# Altium integrated library Linear Technology Power Management System Supervisor, Monitor and Control.IntLib: 1611 symbols (part 47 of 100)
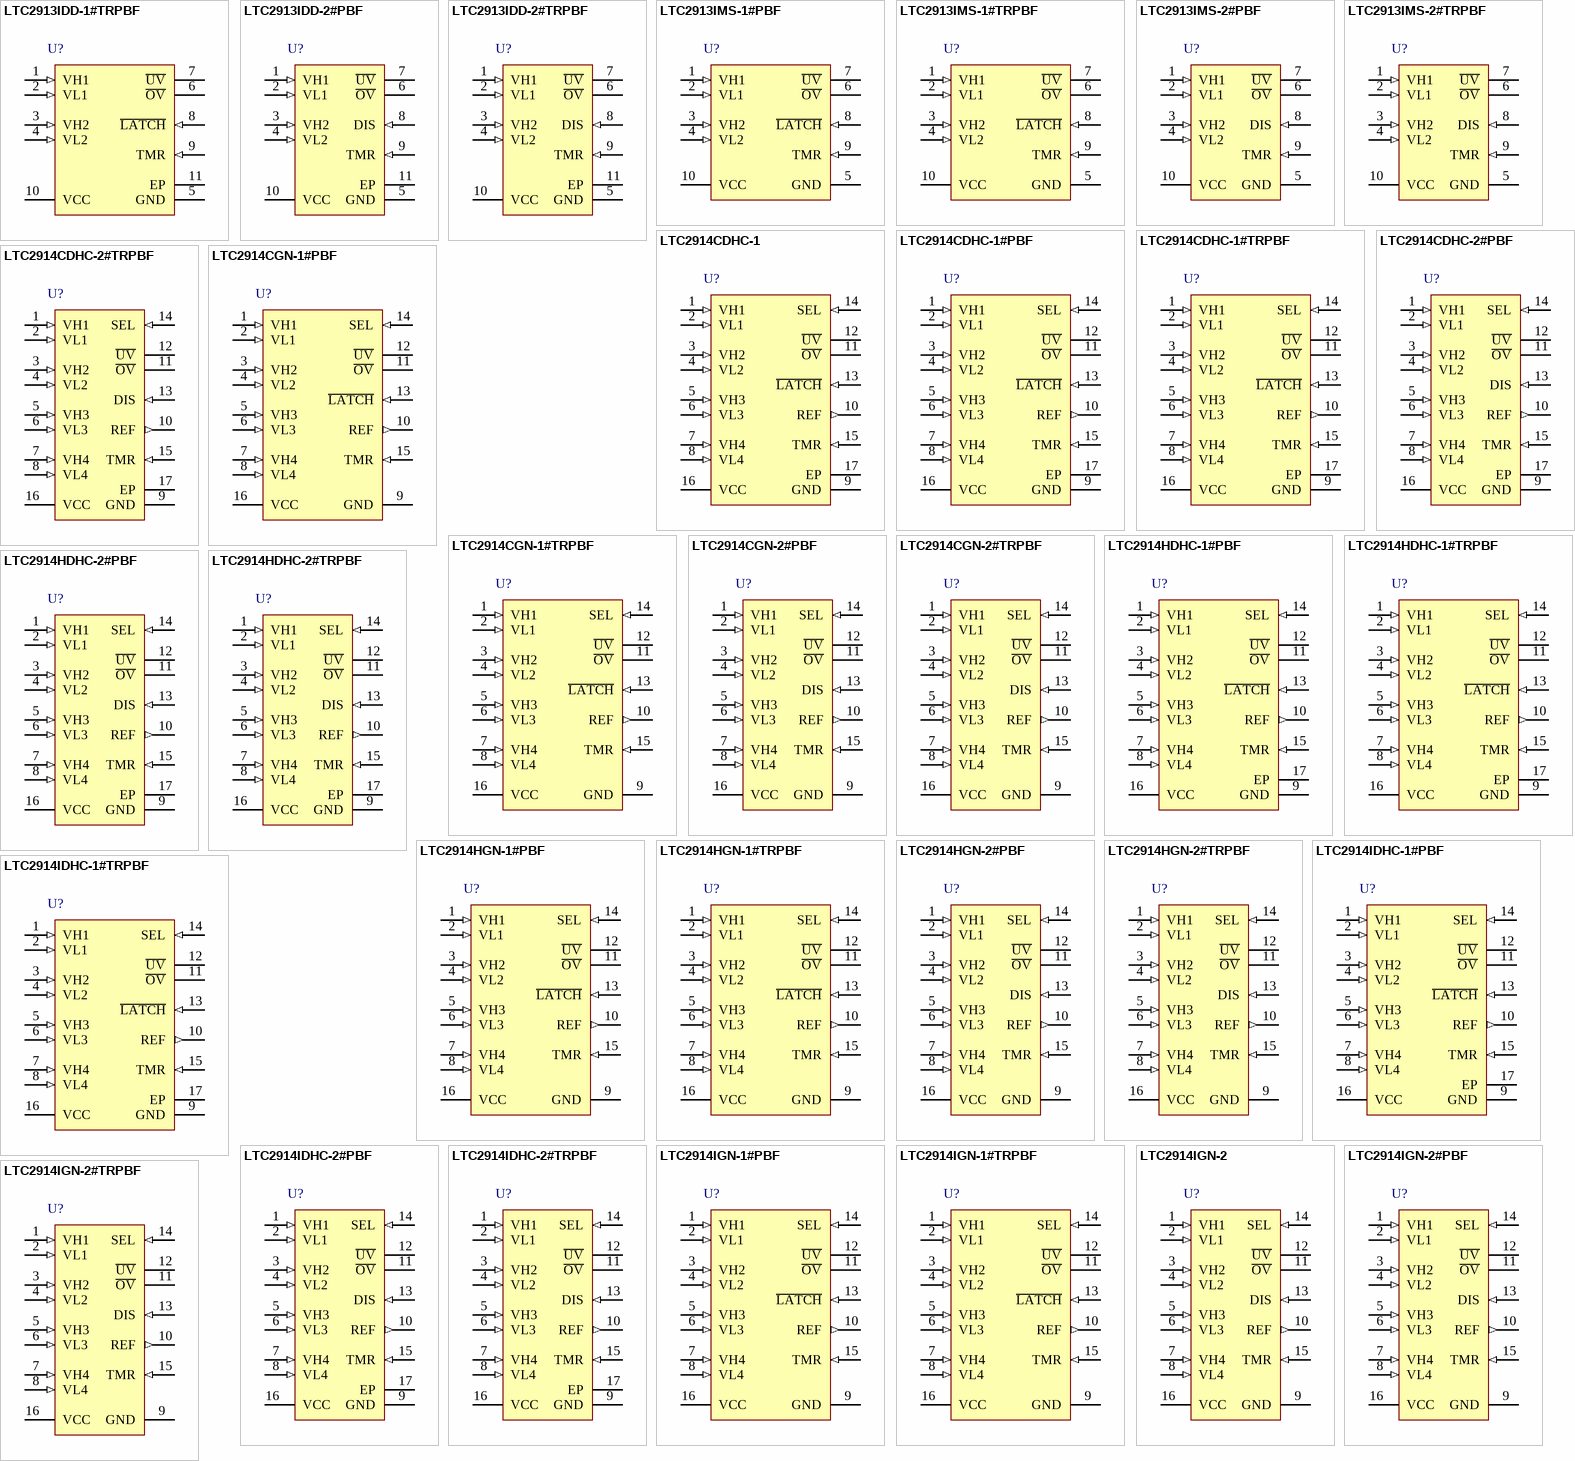
[diagram p91: symbols LTC2913IDD-1#TRPBF to LTC2914IGN-2#TRPBF]

## LTC2914HGN-1#TRPBF
designator U?
Quad UV/OV Positive / Negative Voltage Monitor, 16-pin SOP (GN-16), -40 to 125 degC, Pb-Free, Tape and Reel; Manufacturer: Linear Technology; PartNumber: LTC2914HGN-1#TRPBF; Number of Supplies(#): 4; DatasheetVersion: Rev. B; PackageVersion: Rev. B, 03/2012; PackageReference: GN-16; PackageDescription: 16-Pin Plastic SSOP, Body 4.9 x 3.9 mm, Pitch 0.635 mm; Supplier 1: Digi-Key; Supplier Part Number 1: LTC2914HGN-1#TRPBF-ND; Supplier 2: Newark; Supplier Part Number 2: 75M4502; Packing: Tape and Reel; RoHS: TRUE; Mounting Technology: Surface Mount; ComponentLink1Description: Manufacturer URL; ComponentLink1URL: http://www.linear.com/; ComponentLink2Description: Datasheet; ComponentLink2URL: http://cds.linear.com/docs/en/datasheet/2914fb.pdf; ComponentLink3Description: Package Specification; ComponentLink3URL: http://cds.linear.com/docs/en/packaging/05081641_B_GN16.pdf
footprint LT-GN-16_N (SOP, 16-Leads, Body 5x4mm, Pitch 0.635mm, IPC Medium Density)
footprint LT-GN-16_L (SOP, 16-Leads, Body 5x4mm, Pitch 0.635mm, IPC High Density)
footprint LT-GN-16_M (SOP, 16-Leads, Body 5x4mm, Pitch 0.635mm, IPC Low Density)
pins: 1 VH1 (in) "Voltage High Inputs 1 and 2. When the voltage on this pin is below 0.5V, an undervoltage condition is triggered. Tie pin to VCC if unused.", 2 VL1 (in) "Voltage Low Inputs 1 and 2. When the voltage on this pin is above 0.5V, an overvoltage condition is triggered. Tie pin to GND if unused.", 3 VH2 (in) "Voltage High Inputs 1 and 2. When the voltage on this pin is below 0.5V, an undervoltage condition is triggered. Tie pin to VCC if unused.", 4 VL2 (in) "Voltage Low Inputs 1 and 2. When the voltage on this pin is above 0.5V, an overvoltage condition is triggered. Tie pin to GND if unused.", 5 VH3 (in) "Voltage High Inputs 3 and 4. The polarity of the input is selected by the state of the SEL pin (refer to Table 1). When the monitored input is confi gured as a positive voltage, an undervoltage condition is triggered when (See Datasheet)", 6 VL3 (in) "Voltage Low Inputs 3 and 4. The polarity of the input is selected by the state of the SEL pin (refer to Table 1). When the monitored input is confi gured as a positive voltage, an overvoltage condition is triggered when the (See Datasheet)", 7 VH4 (in) "Voltage High Inputs 3 and 4. The polarity of the input is selected by the state of the SEL pin (refer to Table 1). When the monitored input is confi gured as a positive voltage, an undervoltage condition is triggered when (See Datasheet)", 8 VL4 (in) "Voltage Low Inputs 3 and 4. The polarity of the input is selected by the state of the SEL pin (refer to Table 1). When the monitored input is confi gured as a positive voltage, an overvoltage condition is triggered when the (See Datasheet)", 9 GND (power) "Device Ground", 10 REF (out) "Buffered Reference Output. 1V reference used for the offset of negative-monitoring applications. The buffered reference sources and sinks up to 1mA. The reference drives capacitive loads up to 1nF. Larger capacitive loads (See Datasheet)", 11 ~{OV} (oc) "Overvoltage Logic Output. Asserts low when any positive polarity input voltage is above threshold or any negative polarity input voltage is below threshold. Latched low (LTC2914-1). Held low for an adjustable delay time (See Datasheet)", 12 ~{UV} (oc) "Undervoltage Logic Output. Asserts low when any positive polarity input voltage is below threshold or any negative polarity input voltage is above threshold. Held low for an adjustable delay time after all voltage inputs are (See Datasheet)", 13 ~{LATCH} (in) "O\V\ Latch Clear/Bypass Input. When pulled low, O\V\ is latched when asserted. When pulled high, O\V\ latch is cleared. While held high, O\V\ has the same delay and output characteristics as U\V\.", 14 SEL (in) "Input Polarity Select Three-State Input. Connect to VCC, GND or leave unconnected in open state to select one of three possible input polarity combinations (refer to Table 1).", 15 TMR (in) "Reset Delay Timer. Attach an external capacitor (CTMR) of at least 10pF to GND to set a reset delay time of 9ms/nF. A 1nF capacitor will generate an 8.5ms reset delay time. Tie pin to VCC to bypass timer.", 16 VCC (power) "Supply Voltage. Bypass this pin to GND with a 0.1uF (or greater) capacitor. Operates as a direct supply input for voltages up to 6V. Operates as a shunt regulator for supply voltages greater than 6V and must have a (See Datasheet)"

## LTC2914HGN-2#PBF
designator U?
Quad UV/OV Positive / Negative Voltage Monitor, 16-pin SOP (GN-16), -40 to 125 degC, Pb-Free; Manufacturer: Linear Technology; PartNumber: LTC2914HGN-2#PBF; Number of Supplies(#): 4; DatasheetVersion: Rev. B; PackageVersion: Rev. B, 03/2012; PackageReference: GN-16; PackageDescription: 16-Pin Plastic SSOP, Body 4.9 x 3.9 mm, Pitch 0.635 mm; Supplier 1: Digi-Key; Supplier Part Number 1: LTC2914HGN-2#PBF-ND; Supplier 2: Newark; Supplier Part Number 2: 75M4503; RoHS: TRUE; Mounting Technology: Surface Mount; ComponentLink1Description: Manufacturer URL; ComponentLink1URL: http://www.linear.com/; ComponentLink2Description: Datasheet; ComponentLink2URL: http://cds.linear.com/docs/en/datasheet/2914fb.pdf; ComponentLink3Description: Package Specification; ComponentLink3URL: http://cds.linear.com/docs/en/packaging/05081641_B_GN16.pdf
footprint LT-GN-16_N (SOP, 16-Leads, Body 5x4mm, Pitch 0.635mm, IPC Medium Density)
footprint LT-GN-16_L (SOP, 16-Leads, Body 5x4mm, Pitch 0.635mm, IPC High Density)
footprint LT-GN-16_M (SOP, 16-Leads, Body 5x4mm, Pitch 0.635mm, IPC Low Density)
pins: 1 VH1 (in) "Voltage High Inputs 1 and 2. When the voltage on this pin is below 0.5V, an undervoltage condition is triggered. Tie pin to VCC if unused.", 2 VL1 (in) "Voltage Low Inputs 1 and 2. When the voltage on this pin is above 0.5V, an overvoltage condition is triggered. Tie pin to GND if unused.", 3 VH2 (in) "Voltage High Inputs 1 and 2. When the voltage on this pin is below 0.5V, an undervoltage condition is triggered. Tie pin to VCC if unused.", 4 VL2 (in) "Voltage Low Inputs 1 and 2. When the voltage on this pin is above 0.5V, an overvoltage condition is triggered. Tie pin to GND if unused.", 5 VH3 (in) "Voltage High Inputs 3 and 4. The polarity of the input is selected by the state of the SEL pin (refer to Table 1). When the monitored input is confi gured as a positive voltage, an undervoltage condition is triggered when (See Datasheet)", 6 VL3 (in) "Voltage Low Inputs 3 and 4. The polarity of the input is selected by the state of the SEL pin (refer to Table 1). When the monitored input is confi gured as a positive voltage, an overvoltage condition is triggered when the (See Datasheet)", 7 VH4 (in) "Voltage High Inputs 3 and 4. The polarity of the input is selected by the state of the SEL pin (refer to Table 1). When the monitored input is confi gured as a positive voltage, an undervoltage condition is triggered when (See Datasheet)", 8 VL4 (in) "Voltage Low Inputs 3 and 4. The polarity of the input is selected by the state of the SEL pin (refer to Table 1). When the monitored input is confi gured as a positive voltage, an overvoltage condition is triggered when the (See Datasheet)", 9 GND (power) "Device Ground", 10 REF (out) "Buffered Reference Output. 1V reference used for the offset of negative-monitoring applications. The buffered reference sources and sinks up to 1mA. The reference drives capacitive loads up to 1nF. Larger capacitive loads (See Datasheet)", 11 ~{OV} (oc) "Overvoltage Logic Output. Asserts low when any positive polarity input voltage is above threshold or any negative polarity input voltage is below threshold. Latched low (LTC2914-1). Held low for an adjustable delay time (See Datasheet)", 12 ~{UV} (oc) "Undervoltage Logic Output. Asserts low when any positive polarity input voltage is below threshold or any negative polarity input voltage is above threshold. Held low for an adjustable delay time after all voltage inputs are (See Datasheet)", 13 DIS (in) "Output Disable Input. Disables the O\V\ and U\V\ output pins. When DIS is pulled high, the O\V\ and U\V\ pins are not asserted except during a UVLO condition. Pin has a weak (2uA) internal pull-down to GND. Leave pin open if (See Datasheet)", 14 SEL (in) "Input Polarity Select Three-State Input. Connect to VCC, GND or leave unconnected in open state to select one of three possible input polarity combinations (refer to Table 1).", 15 TMR (in) "Reset Delay Timer. Attach an external capacitor (CTMR) of at least 10pF to GND to set a reset delay time of 9ms/nF. A 1nF capacitor will generate an 8.5ms reset delay time. Tie pin to VCC to bypass timer.", 16 VCC (power) "Supply Voltage. Bypass this pin to GND with a 0.1uF (or greater) capacitor. Operates as a direct supply input for voltages up to 6V. Operates as a shunt regulator for supply voltages greater than 6V and must have a (See Datasheet)"

## LTC2914HGN-2#TRPBF
designator U?
Quad UV/OV Positive / Negative Voltage Monitor, 16-pin SOP (GN-16), -40 to 125 degC, Pb-Free, Tape and Reel; Manufacturer: Linear Technology; PartNumber: LTC2914HGN-2#TRPBF; Number of Supplies(#): 4; DatasheetVersion: Rev. B; PackageVersion: Rev. B, 03/2012; PackageReference: GN-16; PackageDescription: 16-Pin Plastic SSOP, Body 4.9 x 3.9 mm, Pitch 0.635 mm; Supplier 1: Digi-Key; Supplier Part Number 1: LTC2914HGN-2#TRPBF-ND; Packing: Tape and Reel; RoHS: TRUE; Mounting Technology: Surface Mount; ComponentLink1Description: Manufacturer URL; ComponentLink1URL: http://www.linear.com/; ComponentLink2Description: Datasheet; ComponentLink2URL: http://cds.linear.com/docs/en/datasheet/2914fb.pdf; ComponentLink3Description: Package Specification; ComponentLink3URL: http://cds.linear.com/docs/en/packaging/05081641_B_GN16.pdf
footprint LT-GN-16_N (SOP, 16-Leads, Body 5x4mm, Pitch 0.635mm, IPC Medium Density)
footprint LT-GN-16_L (SOP, 16-Leads, Body 5x4mm, Pitch 0.635mm, IPC High Density)
footprint LT-GN-16_M (SOP, 16-Leads, Body 5x4mm, Pitch 0.635mm, IPC Low Density)
pins: 1 VH1 (in) "Voltage High Inputs 1 and 2. When the voltage on this pin is below 0.5V, an undervoltage condition is triggered. Tie pin to VCC if unused.", 2 VL1 (in) "Voltage Low Inputs 1 and 2. When the voltage on this pin is above 0.5V, an overvoltage condition is triggered. Tie pin to GND if unused.", 3 VH2 (in) "Voltage High Inputs 1 and 2. When the voltage on this pin is below 0.5V, an undervoltage condition is triggered. Tie pin to VCC if unused.", 4 VL2 (in) "Voltage Low Inputs 1 and 2. When the voltage on this pin is above 0.5V, an overvoltage condition is triggered. Tie pin to GND if unused.", 5 VH3 (in) "Voltage High Inputs 3 and 4. The polarity of the input is selected by the state of the SEL pin (refer to Table 1). When the monitored input is confi gured as a positive voltage, an undervoltage condition is triggered when (See Datasheet)", 6 VL3 (in) "Voltage Low Inputs 3 and 4. The polarity of the input is selected by the state of the SEL pin (refer to Table 1). When the monitored input is confi gured as a positive voltage, an overvoltage condition is triggered when the (See Datasheet)", 7 VH4 (in) "Voltage High Inputs 3 and 4. The polarity of the input is selected by the state of the SEL pin (refer to Table 1). When the monitored input is confi gured as a positive voltage, an undervoltage condition is triggered when (See Datasheet)", 8 VL4 (in) "Voltage Low Inputs 3 and 4. The polarity of the input is selected by the state of the SEL pin (refer to Table 1). When the monitored input is confi gured as a positive voltage, an overvoltage condition is triggered when the (See Datasheet)", 9 GND (power) "Device Ground", 10 REF (out) "Buffered Reference Output. 1V reference used for the offset of negative-monitoring applications. The buffered reference sources and sinks up to 1mA. The reference drives capacitive loads up to 1nF. Larger capacitive loads (See Datasheet)", 11 ~{OV} (oc) "Overvoltage Logic Output. Asserts low when any positive polarity input voltage is above threshold or any negative polarity input voltage is below threshold. Latched low (LTC2914-1). Held low for an adjustable delay time (See Datasheet)", 12 ~{UV} (oc) "Undervoltage Logic Output. Asserts low when any positive polarity input voltage is below threshold or any negative polarity input voltage is above threshold. Held low for an adjustable delay time after all voltage inputs are (See Datasheet)", 13 DIS (in) "Output Disable Input. Disables the O\V\ and U\V\ output pins. When DIS is pulled high, the O\V\ and U\V\ pins are not asserted except during a UVLO condition. Pin has a weak (2uA) internal pull-down to GND. Leave pin open if (See Datasheet)", 14 SEL (in) "Input Polarity Select Three-State Input. Connect to VCC, GND or leave unconnected in open state to select one of three possible input polarity combinations (refer to Table 1).", 15 TMR (in) "Reset Delay Timer. Attach an external capacitor (CTMR) of at least 10pF to GND to set a reset delay time of 9ms/nF. A 1nF capacitor will generate an 8.5ms reset delay time. Tie pin to VCC to bypass timer.", 16 VCC (power) "Supply Voltage. Bypass this pin to GND with a 0.1uF (or greater) capacitor. Operates as a direct supply input for voltages up to 6V. Operates as a shunt regulator for supply voltages greater than 6V and must have a (See Datasheet)"

## LTC2914IDHC-1#PBF
designator U?
Quad UV/OV Positive / Negative Voltage Monitor, 16-pin SON (DHC-16), -40 to 85 degC, Pb-Free; Manufacturer: Linear Technology; PartNumber: LTC2914IDHC-1#PBF; Number of Supplies(#): 4; DatasheetVersion: Rev. B; PackageVersion: Jun-10; PackageReference: DHC-16; PackageDescription: 16-Pin Plastic DFN, Body 5 x 3 mm, Pitch 0.5 mm; Supplier 1: Digi-Key; Supplier Part Number 1: LTC2914IDHC-1#PBF-ND; Supplier 2: Farnell; Supplier Part Number 2: 2295423; RoHS: TRUE; Mounting Technology: Surface Mount; Code_JEDEC: MO-229; ComponentLink1Description: Manufacturer URL; ComponentLink1URL: http://www.linear.com/; ComponentLink2Description: Datasheet; ComponentLink2URL: http://cds.linear.com/docs/en/datasheet/2914fb.pdf; ComponentLink3Description: Package Specification; ComponentLink3URL: http://cds.linear.com/docs/en/packaging/DFN_16_05-08-1706.pdf
footprint LT-DHC-16_V (SON, 16-Leads, Body 5x3mm, Pitch 0.5mm, Thermal Pad 4.4X1.65mm)
pins: 1 VH1 (in) "Voltage High Inputs 1 and 2. When the voltage on this pin is below 0.5V, an undervoltage condition is triggered. Tie pin to VCC if unused.", 2 VL1 (in) "Voltage Low Inputs 1 and 2. When the voltage on this pin is above 0.5V, an overvoltage condition is triggered. Tie pin to GND if unused.", 3 VH2 (in) "Voltage High Inputs 1 and 2. When the voltage on this pin is below 0.5V, an undervoltage condition is triggered. Tie pin to VCC if unused.", 4 VL2 (in) "Voltage Low Inputs 1 and 2. When the voltage on this pin is above 0.5V, an overvoltage condition is triggered. Tie pin to GND if unused.", 5 VH3 (in) "Voltage High Inputs 3 and 4. The polarity of the input is selected by the state of the SEL pin (refer to Table 1). When the monitored input is confi gured as a positive voltage, an undervoltage condition is triggered when (See Datasheet)", 6 VL3 (in) "Voltage Low Inputs 3 and 4. The polarity of the input is selected by the state of the SEL pin (refer to Table 1). When the monitored input is confi gured as a positive voltage, an overvoltage condition is triggered when the (See Datasheet)", 7 VH4 (in) "Voltage High Inputs 3 and 4. The polarity of the input is selected by the state of the SEL pin (refer to Table 1). When the monitored input is confi gured as a positive voltage, an undervoltage condition is triggered when (See Datasheet)", 8 VL4 (in) "Voltage Low Inputs 3 and 4. The polarity of the input is selected by the state of the SEL pin (refer to Table 1). When the monitored input is confi gured as a positive voltage, an overvoltage condition is triggered when the (See Datasheet)", 9 GND (power) "Device Ground", 10 REF (out) "Buffered Reference Output. 1V reference used for the offset of negative-monitoring applications. The buffered reference sources and sinks up to 1mA. The reference drives capacitive loads up to 1nF. Larger capacitive loads (See Datasheet)", 11 ~{OV} (oc) "Overvoltage Logic Output. Asserts low when any positive polarity input voltage is above threshold or any negative polarity input voltage is below threshold. Latched low (LTC2914-1). Held low for an adjustable delay time (See Datasheet)", 12 ~{UV} (oc) "Undervoltage Logic Output. Asserts low when any positive polarity input voltage is below threshold or any negative polarity input voltage is above threshold. Held low for an adjustable delay time after all voltage inputs are (See Datasheet)", 13 ~{LATCH} (in) "O\V\ Latch Clear/Bypass Input. When pulled low, O\V\ is latched when asserted. When pulled high, O\V\ latch is cleared. While held high, O\V\ has the same delay and output characteristics as U\V\.", 14 SEL (in) "Input Polarity Select Three-State Input. Connect to VCC, GND or leave unconnected in open state to select one of three possible input polarity combinations (refer to Table 1).", 15 TMR (in) "Reset Delay Timer. Attach an external capacitor (CTMR) of at least 10pF to GND to set a reset delay time of 9ms/nF. A 1nF capacitor will generate an 8.5ms reset delay time. Tie pin to VCC to bypass timer.", 16 VCC (power) "Supply Voltage. Bypass this pin to GND with a 0.1uF (or greater) capacitor. Operates as a direct supply input for voltages up to 6V. Operates as a shunt regulator for supply voltages greater than 6V and must have a (See Datasheet)", 17 EP (power) "Exposed Pad may be left open or connected to device ground."

## LTC2914IDHC-1#TRPBF
designator U?
Quad UV/OV Positive / Negative Voltage Monitor, 16-pin SON (DHC-16), -40 to 85 degC, Pb-Free, Tape and Reel; Manufacturer: Linear Technology; PartNumber: LTC2914IDHC-1#TRPBF; Number of Supplies(#): 4; DatasheetVersion: Rev. B; PackageVersion: Jun-10; PackageReference: DHC-16; PackageDescription: 16-Pin Plastic DFN, Body 5 x 3 mm, Pitch 0.5 mm; Supplier 1: Digi-Key; Supplier Part Number 1: LTC2914IDHC-1#TRPBF-ND; Packing: Tape and Reel; RoHS: TRUE; Mounting Technology: Surface Mount; Code_JEDEC: MO-229; ComponentLink1Description: Manufacturer URL; ComponentLink1URL: http://www.linear.com/; ComponentLink2Description: Datasheet; ComponentLink2URL: http://cds.linear.com/docs/en/datasheet/2914fb.pdf; ComponentLink3Description: Package Specification; ComponentLink3URL: http://cds.linear.com/docs/en/packaging/DFN_16_05-08-1706.pdf
footprint LT-DHC-16_V (SON, 16-Leads, Body 5x3mm, Pitch 0.5mm, Thermal Pad 4.4X1.65mm)
pins: 1 VH1 (in) "Voltage High Inputs 1 and 2. When the voltage on this pin is below 0.5V, an undervoltage condition is triggered. Tie pin to VCC if unused.", 2 VL1 (in) "Voltage Low Inputs 1 and 2. When the voltage on this pin is above 0.5V, an overvoltage condition is triggered. Tie pin to GND if unused.", 3 VH2 (in) "Voltage High Inputs 1 and 2. When the voltage on this pin is below 0.5V, an undervoltage condition is triggered. Tie pin to VCC if unused.", 4 VL2 (in) "Voltage Low Inputs 1 and 2. When the voltage on this pin is above 0.5V, an overvoltage condition is triggered. Tie pin to GND if unused.", 5 VH3 (in) "Voltage High Inputs 3 and 4. The polarity of the input is selected by the state of the SEL pin (refer to Table 1). When the monitored input is confi gured as a positive voltage, an undervoltage condition is triggered when (See Datasheet)", 6 VL3 (in) "Voltage Low Inputs 3 and 4. The polarity of the input is selected by the state of the SEL pin (refer to Table 1). When the monitored input is confi gured as a positive voltage, an overvoltage condition is triggered when the (See Datasheet)", 7 VH4 (in) "Voltage High Inputs 3 and 4. The polarity of the input is selected by the state of the SEL pin (refer to Table 1). When the monitored input is confi gured as a positive voltage, an undervoltage condition is triggered when (See Datasheet)", 8 VL4 (in) "Voltage Low Inputs 3 and 4. The polarity of the input is selected by the state of the SEL pin (refer to Table 1). When the monitored input is confi gured as a positive voltage, an overvoltage condition is triggered when the (See Datasheet)", 9 GND (power) "Device Ground", 10 REF (out) "Buffered Reference Output. 1V reference used for the offset of negative-monitoring applications. The buffered reference sources and sinks up to 1mA. The reference drives capacitive loads up to 1nF. Larger capacitive loads (See Datasheet)", 11 ~{OV} (oc) "Overvoltage Logic Output. Asserts low when any positive polarity input voltage is above threshold or any negative polarity input voltage is below threshold. Latched low (LTC2914-1). Held low for an adjustable delay time (See Datasheet)", 12 ~{UV} (oc) "Undervoltage Logic Output. Asserts low when any positive polarity input voltage is below threshold or any negative polarity input voltage is above threshold. Held low for an adjustable delay time after all voltage inputs are (See Datasheet)", 13 ~{LATCH} (in) "O\V\ Latch Clear/Bypass Input. When pulled low, O\V\ is latched when asserted. When pulled high, O\V\ latch is cleared. While held high, O\V\ has the same delay and output characteristics as U\V\.", 14 SEL (in) "Input Polarity Select Three-State Input. Connect to VCC, GND or leave unconnected in open state to select one of three possible input polarity combinations (refer to Table 1).", 15 TMR (in) "Reset Delay Timer. Attach an external capacitor (CTMR) of at least 10pF to GND to set a reset delay time of 9ms/nF. A 1nF capacitor will generate an 8.5ms reset delay time. Tie pin to VCC to bypass timer.", 16 VCC (power) "Supply Voltage. Bypass this pin to GND with a 0.1uF (or greater) capacitor. Operates as a direct supply input for voltages up to 6V. Operates as a shunt regulator for supply voltages greater than 6V and must have a (See Datasheet)", 17 EP (power) "Exposed Pad may be left open or connected to device ground."

## LTC2914IDHC-2#PBF
designator U?
Quad UV/OV Positive / Negative Voltage Monitor, 16-pin SON (DHC-16), -40 to 85 degC, Pb-Free; Manufacturer: Linear Technology; PartNumber: LTC2914IDHC-2#PBF; Number of Supplies(#): 4; DatasheetVersion: Rev. B; PackageVersion: Jun-10; PackageReference: DHC-16; PackageDescription: 16-Pin Plastic DFN, Body 5 x 3 mm, Pitch 0.5 mm; Supplier 1: Digi-Key; Supplier Part Number 1: LTC2914IDHC-2#PBF-ND; RoHS: TRUE; Mounting Technology: Surface Mount; Code_JEDEC: MO-229; ComponentLink1Description: Manufacturer URL; ComponentLink1URL: http://www.linear.com/; ComponentLink2Description: Datasheet; ComponentLink2URL: http://cds.linear.com/docs/en/datasheet/2914fb.pdf; ComponentLink3Description: Package Specification; ComponentLink3URL: http://cds.linear.com/docs/en/packaging/DFN_16_05-08-1706.pdf
footprint LT-DHC-16_V (SON, 16-Leads, Body 5x3mm, Pitch 0.5mm, Thermal Pad 4.4X1.65mm)
pins: 1 VH1 (in) "Voltage High Inputs 1 and 2. When the voltage on this pin is below 0.5V, an undervoltage condition is triggered. Tie pin to VCC if unused.", 2 VL1 (in) "Voltage Low Inputs 1 and 2. When the voltage on this pin is above 0.5V, an overvoltage condition is triggered. Tie pin to GND if unused.", 3 VH2 (in) "Voltage High Inputs 1 and 2. When the voltage on this pin is below 0.5V, an undervoltage condition is triggered. Tie pin to VCC if unused.", 4 VL2 (in) "Voltage Low Inputs 1 and 2. When the voltage on this pin is above 0.5V, an overvoltage condition is triggered. Tie pin to GND if unused.", 5 VH3 (in) "Voltage High Inputs 3 and 4. The polarity of the input is selected by the state of the SEL pin (refer to Table 1). When the monitored input is confi gured as a positive voltage, an undervoltage condition is triggered when (See Datasheet)", 6 VL3 (in) "Voltage Low Inputs 3 and 4. The polarity of the input is selected by the state of the SEL pin (refer to Table 1). When the monitored input is confi gured as a positive voltage, an overvoltage condition is triggered when the (See Datasheet)", 7 VH4 (in) "Voltage High Inputs 3 and 4. The polarity of the input is selected by the state of the SEL pin (refer to Table 1). When the monitored input is confi gured as a positive voltage, an undervoltage condition is triggered when (See Datasheet)", 8 VL4 (in) "Voltage Low Inputs 3 and 4. The polarity of the input is selected by the state of the SEL pin (refer to Table 1). When the monitored input is confi gured as a positive voltage, an overvoltage condition is triggered when the (See Datasheet)", 9 GND (power) "Device Ground", 10 REF (out) "Buffered Reference Output. 1V reference used for the offset of negative-monitoring applications. The buffered reference sources and sinks up to 1mA. The reference drives capacitive loads up to 1nF. Larger capacitive loads (See Datasheet)", 11 ~{OV} (oc) "Overvoltage Logic Output. Asserts low when any positive polarity input voltage is above threshold or any negative polarity input voltage is below threshold. Latched low (LTC2914-1). Held low for an adjustable delay time (See Datasheet)", 12 ~{UV} (oc) "Undervoltage Logic Output. Asserts low when any positive polarity input voltage is below threshold or any negative polarity input voltage is above threshold. Held low for an adjustable delay time after all voltage inputs are (See Datasheet)", 13 DIS (in) "Output Disable Input. Disables the O\V\ and U\V\ output pins. When DIS is pulled high, the O\V\ and U\V\ pins are not asserted except during a UVLO condition. Pin has a weak (2uA) internal pull-down to GND. Leave pin open if (See Datasheet)", 14 SEL (in) "Input Polarity Select Three-State Input. Connect to VCC, GND or leave unconnected in open state to select one of three possible input polarity combinations (refer to Table 1).", 15 TMR (in) "Reset Delay Timer. Attach an external capacitor (CTMR) of at least 10pF to GND to set a reset delay time of 9ms/nF. A 1nF capacitor will generate an 8.5ms reset delay time. Tie pin to VCC to bypass timer.", 16 VCC (power) "Supply Voltage. Bypass this pin to GND with a 0.1uF (or greater) capacitor. Operates as a direct supply input for voltages up to 6V. Operates as a shunt regulator for supply voltages greater than 6V and must have a (See Datasheet)", 17 EP (power) "Exposed Pad may be left open or connected to device ground."

## LTC2914IDHC-2#TRPBF
designator U?
Quad UV/OV Positive / Negative Voltage Monitor, 16-pin SON (DHC-16), -40 to 85 degC, Pb-Free, Tape and Reel; Manufacturer: Linear Technology; PartNumber: LTC2914IDHC-2#TRPBF; Number of Supplies(#): 4; DatasheetVersion: Rev. B; PackageVersion: Jun-10; PackageReference: DHC-16; PackageDescription: 16-Pin Plastic DFN, Body 5 x 3 mm, Pitch 0.5 mm; Supplier 1: Digi-Key; Supplier Part Number 1: LTC2914IDHC-2#TRPBF-ND; Packing: Tape and Reel; RoHS: TRUE; Mounting Technology: Surface Mount; Code_JEDEC: MO-229; ComponentLink1Description: Manufacturer URL; ComponentLink1URL: http://www.linear.com/; ComponentLink2Description: Datasheet; ComponentLink2URL: http://cds.linear.com/docs/en/datasheet/2914fb.pdf; ComponentLink3Description: Package Specification; ComponentLink3URL: http://cds.linear.com/docs/en/packaging/DFN_16_05-08-1706.pdf
footprint LT-DHC-16_V (SON, 16-Leads, Body 5x3mm, Pitch 0.5mm, Thermal Pad 4.4X1.65mm)
pins: 1 VH1 (in) "Voltage High Inputs 1 and 2. When the voltage on this pin is below 0.5V, an undervoltage condition is triggered. Tie pin to VCC if unused.", 2 VL1 (in) "Voltage Low Inputs 1 and 2. When the voltage on this pin is above 0.5V, an overvoltage condition is triggered. Tie pin to GND if unused.", 3 VH2 (in) "Voltage High Inputs 1 and 2. When the voltage on this pin is below 0.5V, an undervoltage condition is triggered. Tie pin to VCC if unused.", 4 VL2 (in) "Voltage Low Inputs 1 and 2. When the voltage on this pin is above 0.5V, an overvoltage condition is triggered. Tie pin to GND if unused.", 5 VH3 (in) "Voltage High Inputs 3 and 4. The polarity of the input is selected by the state of the SEL pin (refer to Table 1). When the monitored input is confi gured as a positive voltage, an undervoltage condition is triggered when (See Datasheet)", 6 VL3 (in) "Voltage Low Inputs 3 and 4. The polarity of the input is selected by the state of the SEL pin (refer to Table 1). When the monitored input is confi gured as a positive voltage, an overvoltage condition is triggered when the (See Datasheet)", 7 VH4 (in) "Voltage High Inputs 3 and 4. The polarity of the input is selected by the state of the SEL pin (refer to Table 1). When the monitored input is confi gured as a positive voltage, an undervoltage condition is triggered when (See Datasheet)", 8 VL4 (in) "Voltage Low Inputs 3 and 4. The polarity of the input is selected by the state of the SEL pin (refer to Table 1). When the monitored input is confi gured as a positive voltage, an overvoltage condition is triggered when the (See Datasheet)", 9 GND (power) "Device Ground", 10 REF (out) "Buffered Reference Output. 1V reference used for the offset of negative-monitoring applications. The buffered reference sources and sinks up to 1mA. The reference drives capacitive loads up to 1nF. Larger capacitive loads (See Datasheet)", 11 ~{OV} (oc) "Overvoltage Logic Output. Asserts low when any positive polarity input voltage is above threshold or any negative polarity input voltage is below threshold. Latched low (LTC2914-1). Held low for an adjustable delay time (See Datasheet)", 12 ~{UV} (oc) "Undervoltage Logic Output. Asserts low when any positive polarity input voltage is below threshold or any negative polarity input voltage is above threshold. Held low for an adjustable delay time after all voltage inputs are (See Datasheet)", 13 DIS (in) "Output Disable Input. Disables the O\V\ and U\V\ output pins. When DIS is pulled high, the O\V\ and U\V\ pins are not asserted except during a UVLO condition. Pin has a weak (2uA) internal pull-down to GND. Leave pin open if (See Datasheet)", 14 SEL (in) "Input Polarity Select Three-State Input. Connect to VCC, GND or leave unconnected in open state to select one of three possible input polarity combinations (refer to Table 1).", 15 TMR (in) "Reset Delay Timer. Attach an external capacitor (CTMR) of at least 10pF to GND to set a reset delay time of 9ms/nF. A 1nF capacitor will generate an 8.5ms reset delay time. Tie pin to VCC to bypass timer.", 16 VCC (power) "Supply Voltage. Bypass this pin to GND with a 0.1uF (or greater) capacitor. Operates as a direct supply input for voltages up to 6V. Operates as a shunt regulator for supply voltages greater than 6V and must have a (See Datasheet)", 17 EP (power) "Exposed Pad may be left open or connected to device ground."

## LTC2914IGN-1#PBF
designator U?
Quad UV/OV Positive / Negative Voltage Monitor, 16-pin SOP (GN-16), -40 to 85 degC, Pb-Free; Manufacturer: Linear Technology; PartNumber: LTC2914IGN-1#PBF; Number of Supplies(#): 4; DatasheetVersion: Rev. B; PackageVersion: Rev. B, 03/2012; PackageReference: GN-16; PackageDescription: 16-Pin Plastic SSOP, Body 4.9 x 3.9 mm, Pitch 0.635 mm; Supplier 1: Digi-Key; Supplier Part Number 1: LTC2914IGN-1#PBF-ND; Supplier 2: Newark; Supplier Part Number 2: 56M6938; RoHS: TRUE; Mounting Technology: Surface Mount; ComponentLink1Description: Manufacturer URL; ComponentLink1URL: http://www.linear.com/; ComponentLink2Description: Datasheet; ComponentLink2URL: http://cds.linear.com/docs/en/datasheet/2914fb.pdf; ComponentLink3Description: Package Specification; ComponentLink3URL: http://cds.linear.com/docs/en/packaging/05081641_B_GN16.pdf
footprint LT-GN-16_N (SOP, 16-Leads, Body 5x4mm, Pitch 0.635mm, IPC Medium Density)
footprint LT-GN-16_L (SOP, 16-Leads, Body 5x4mm, Pitch 0.635mm, IPC High Density)
footprint LT-GN-16_M (SOP, 16-Leads, Body 5x4mm, Pitch 0.635mm, IPC Low Density)
pins: 1 VH1 (in) "Voltage High Inputs 1 and 2. When the voltage on this pin is below 0.5V, an undervoltage condition is triggered. Tie pin to VCC if unused.", 2 VL1 (in) "Voltage Low Inputs 1 and 2. When the voltage on this pin is above 0.5V, an overvoltage condition is triggered. Tie pin to GND if unused.", 3 VH2 (in) "Voltage High Inputs 1 and 2. When the voltage on this pin is below 0.5V, an undervoltage condition is triggered. Tie pin to VCC if unused.", 4 VL2 (in) "Voltage Low Inputs 1 and 2. When the voltage on this pin is above 0.5V, an overvoltage condition is triggered. Tie pin to GND if unused.", 5 VH3 (in) "Voltage High Inputs 3 and 4. The polarity of the input is selected by the state of the SEL pin (refer to Table 1). When the monitored input is confi gured as a positive voltage, an undervoltage condition is triggered when (See Datasheet)", 6 VL3 (in) "Voltage Low Inputs 3 and 4. The polarity of the input is selected by the state of the SEL pin (refer to Table 1). When the monitored input is confi gured as a positive voltage, an overvoltage condition is triggered when the (See Datasheet)", 7 VH4 (in) "Voltage High Inputs 3 and 4. The polarity of the input is selected by the state of the SEL pin (refer to Table 1). When the monitored input is confi gured as a positive voltage, an undervoltage condition is triggered when (See Datasheet)", 8 VL4 (in) "Voltage Low Inputs 3 and 4. The polarity of the input is selected by the state of the SEL pin (refer to Table 1). When the monitored input is confi gured as a positive voltage, an overvoltage condition is triggered when the (See Datasheet)", 9 GND (power) "Device Ground", 10 REF (out) "Buffered Reference Output. 1V reference used for the offset of negative-monitoring applications. The buffered reference sources and sinks up to 1mA. The reference drives capacitive loads up to 1nF. Larger capacitive loads (See Datasheet)", 11 ~{OV} (oc) "Overvoltage Logic Output. Asserts low when any positive polarity input voltage is above threshold or any negative polarity input voltage is below threshold. Latched low (LTC2914-1). Held low for an adjustable delay time (See Datasheet)", 12 ~{UV} (oc) "Undervoltage Logic Output. Asserts low when any positive polarity input voltage is below threshold or any negative polarity input voltage is above threshold. Held low for an adjustable delay time after all voltage inputs are (See Datasheet)", 13 ~{LATCH} (in) "O\V\ Latch Clear/Bypass Input. When pulled low, O\V\ is latched when asserted. When pulled high, O\V\ latch is cleared. While held high, O\V\ has the same delay and output characteristics as U\V\.", 14 SEL (in) "Input Polarity Select Three-State Input. Connect to VCC, GND or leave unconnected in open state to select one of three possible input polarity combinations (refer to Table 1).", 15 TMR (in) "Reset Delay Timer. Attach an external capacitor (CTMR) of at least 10pF to GND to set a reset delay time of 9ms/nF. A 1nF capacitor will generate an 8.5ms reset delay time. Tie pin to VCC to bypass timer.", 16 VCC (power) "Supply Voltage. Bypass this pin to GND with a 0.1uF (or greater) capacitor. Operates as a direct supply input for voltages up to 6V. Operates as a shunt regulator for supply voltages greater than 6V and must have a (See Datasheet)"

## LTC2914IGN-1#TRPBF
designator U?
Quad UV/OV Positive / Negative Voltage Monitor, 16-pin SOP (GN-16), -40 to 85 degC, Pb-Free, Tape and Reel; Manufacturer: Linear Technology; PartNumber: LTC2914IGN-1#TRPBF; Number of Supplies(#): 4; DatasheetVersion: Rev. B; PackageVersion: Rev. B, 03/2012; PackageReference: GN-16; PackageDescription: 16-Pin Plastic SSOP, Body 4.9 x 3.9 mm, Pitch 0.635 mm; Supplier 1: Digi-Key; Supplier Part Number 1: LTC2914IGN-1#TRPBF-ND; Supplier 2: Newark; Supplier Part Number 2: 56M6940; Packing: Tape and Reel; RoHS: TRUE; Mounting Technology: Surface Mount; ComponentLink1Description: Manufacturer URL; ComponentLink1URL: http://www.linear.com/; ComponentLink2Description: Datasheet; ComponentLink2URL: http://cds.linear.com/docs/en/datasheet/2914fb.pdf; ComponentLink3Description: Package Specification; ComponentLink3URL: http://cds.linear.com/docs/en/packaging/05081641_B_GN16.pdf
footprint LT-GN-16_N (SOP, 16-Leads, Body 5x4mm, Pitch 0.635mm, IPC Medium Density)
footprint LT-GN-16_L (SOP, 16-Leads, Body 5x4mm, Pitch 0.635mm, IPC High Density)
footprint LT-GN-16_M (SOP, 16-Leads, Body 5x4mm, Pitch 0.635mm, IPC Low Density)
pins: 1 VH1 (in) "Voltage High Inputs 1 and 2. When the voltage on this pin is below 0.5V, an undervoltage condition is triggered. Tie pin to VCC if unused.", 2 VL1 (in) "Voltage Low Inputs 1 and 2. When the voltage on this pin is above 0.5V, an overvoltage condition is triggered. Tie pin to GND if unused.", 3 VH2 (in) "Voltage High Inputs 1 and 2. When the voltage on this pin is below 0.5V, an undervoltage condition is triggered. Tie pin to VCC if unused.", 4 VL2 (in) "Voltage Low Inputs 1 and 2. When the voltage on this pin is above 0.5V, an overvoltage condition is triggered. Tie pin to GND if unused.", 5 VH3 (in) "Voltage High Inputs 3 and 4. The polarity of the input is selected by the state of the SEL pin (refer to Table 1). When the monitored input is confi gured as a positive voltage, an undervoltage condition is triggered when (See Datasheet)", 6 VL3 (in) "Voltage Low Inputs 3 and 4. The polarity of the input is selected by the state of the SEL pin (refer to Table 1). When the monitored input is confi gured as a positive voltage, an overvoltage condition is triggered when the (See Datasheet)", 7 VH4 (in) "Voltage High Inputs 3 and 4. The polarity of the input is selected by the state of the SEL pin (refer to Table 1). When the monitored input is confi gured as a positive voltage, an undervoltage condition is triggered when (See Datasheet)", 8 VL4 (in) "Voltage Low Inputs 3 and 4. The polarity of the input is selected by the state of the SEL pin (refer to Table 1). When the monitored input is confi gured as a positive voltage, an overvoltage condition is triggered when the (See Datasheet)", 9 GND (power) "Device Ground", 10 REF (out) "Buffered Reference Output. 1V reference used for the offset of negative-monitoring applications. The buffered reference sources and sinks up to 1mA. The reference drives capacitive loads up to 1nF. Larger capacitive loads (See Datasheet)", 11 ~{OV} (oc) "Overvoltage Logic Output. Asserts low when any positive polarity input voltage is above threshold or any negative polarity input voltage is below threshold. Latched low (LTC2914-1). Held low for an adjustable delay time (See Datasheet)", 12 ~{UV} (oc) "Undervoltage Logic Output. Asserts low when any positive polarity input voltage is below threshold or any negative polarity input voltage is above threshold. Held low for an adjustable delay time after all voltage inputs are (See Datasheet)", 13 ~{LATCH} (in) "O\V\ Latch Clear/Bypass Input. When pulled low, O\V\ is latched when asserted. When pulled high, O\V\ latch is cleared. While held high, O\V\ has the same delay and output characteristics as U\V\.", 14 SEL (in) "Input Polarity Select Three-State Input. Connect to VCC, GND or leave unconnected in open state to select one of three possible input polarity combinations (refer to Table 1).", 15 TMR (in) "Reset Delay Timer. Attach an external capacitor (CTMR) of at least 10pF to GND to set a reset delay time of 9ms/nF. A 1nF capacitor will generate an 8.5ms reset delay time. Tie pin to VCC to bypass timer.", 16 VCC (power) "Supply Voltage. Bypass this pin to GND with a 0.1uF (or greater) capacitor. Operates as a direct supply input for voltages up to 6V. Operates as a shunt regulator for supply voltages greater than 6V and must have a (See Datasheet)"

## LTC2914IGN-2
designator U?
Quad UV/OV Positive / Negative Voltage Monitor, 16-pin SOP (GN-16), -40 to 85 degC; Manufacturer: Linear Technology; PartNumber: LTC2914IGN-2; Number of Supplies(#): 4; DatasheetVersion: Rev. B; PackageVersion: Rev. B, 03/2012; PackageReference: GN-16; PackageDescription: 16-Pin Plastic SSOP, Body 4.9 x 3.9 mm, Pitch 0.635 mm; Supplier 1: Newark; Supplier Part Number 1: 56M6941; RoHS: FALSE; Mounting Technology: Surface Mount; ComponentLink1Description: Manufacturer URL; ComponentLink1URL: http://www.linear.com/; ComponentLink2Description: Datasheet; ComponentLink2URL: http://cds.linear.com/docs/en/datasheet/2914fb.pdf; ComponentLink3Description: Package Specification; ComponentLink3URL: http://cds.linear.com/docs/en/packaging/05081641_B_GN16.pdf
footprint LT-GN-16_N (SOP, 16-Leads, Body 5x4mm, Pitch 0.635mm, IPC Medium Density)
footprint LT-GN-16_L (SOP, 16-Leads, Body 5x4mm, Pitch 0.635mm, IPC High Density)
footprint LT-GN-16_M (SOP, 16-Leads, Body 5x4mm, Pitch 0.635mm, IPC Low Density)
pins: 1 VH1 (in) "Voltage High Inputs 1 and 2. When the voltage on this pin is below 0.5V, an undervoltage condition is triggered. Tie pin to VCC if unused.", 2 VL1 (in) "Voltage Low Inputs 1 and 2. When the voltage on this pin is above 0.5V, an overvoltage condition is triggered. Tie pin to GND if unused.", 3 VH2 (in) "Voltage High Inputs 1 and 2. When the voltage on this pin is below 0.5V, an undervoltage condition is triggered. Tie pin to VCC if unused.", 4 VL2 (in) "Voltage Low Inputs 1 and 2. When the voltage on this pin is above 0.5V, an overvoltage condition is triggered. Tie pin to GND if unused.", 5 VH3 (in) "Voltage High Inputs 3 and 4. The polarity of the input is selected by the state of the SEL pin (refer to Table 1). When the monitored input is confi gured as a positive voltage, an undervoltage condition is triggered when (See Datasheet)", 6 VL3 (in) "Voltage Low Inputs 3 and 4. The polarity of the input is selected by the state of the SEL pin (refer to Table 1). When the monitored input is confi gured as a positive voltage, an overvoltage condition is triggered when the (See Datasheet)", 7 VH4 (in) "Voltage High Inputs 3 and 4. The polarity of the input is selected by the state of the SEL pin (refer to Table 1). When the monitored input is confi gured as a positive voltage, an undervoltage condition is triggered when (See Datasheet)", 8 VL4 (in) "Voltage Low Inputs 3 and 4. The polarity of the input is selected by the state of the SEL pin (refer to Table 1). When the monitored input is confi gured as a positive voltage, an overvoltage condition is triggered when the (See Datasheet)", 9 GND (power) "Device Ground", 10 REF (out) "Buffered Reference Output. 1V reference used for the offset of negative-monitoring applications. The buffered reference sources and sinks up to 1mA. The reference drives capacitive loads up to 1nF. Larger capacitive loads (See Datasheet)", 11 ~{OV} (oc) "Overvoltage Logic Output. Asserts low when any positive polarity input voltage is above threshold or any negative polarity input voltage is below threshold. Latched low (LTC2914-1). Held low for an adjustable delay time (See Datasheet)", 12 ~{UV} (oc) "Undervoltage Logic Output. Asserts low when any positive polarity input voltage is below threshold or any negative polarity input voltage is above threshold. Held low for an adjustable delay time after all voltage inputs are (See Datasheet)", 13 DIS (in) "Output Disable Input. Disables the O\V\ and U\V\ output pins. When DIS is pulled high, the O\V\ and U\V\ pins are not asserted except during a UVLO condition. Pin has a weak (2uA) internal pull-down to GND. Leave pin open if (See Datasheet)", 14 SEL (in) "Input Polarity Select Three-State Input. Connect to VCC, GND or leave unconnected in open state to select one of three possible input polarity combinations (refer to Table 1).", 15 TMR (in) "Reset Delay Timer. Attach an external capacitor (CTMR) of at least 10pF to GND to set a reset delay time of 9ms/nF. A 1nF capacitor will generate an 8.5ms reset delay time. Tie pin to VCC to bypass timer.", 16 VCC (power) "Supply Voltage. Bypass this pin to GND with a 0.1uF (or greater) capacitor. Operates as a direct supply input for voltages up to 6V. Operates as a shunt regulator for supply voltages greater than 6V and must have a (See Datasheet)"

## LTC2914IGN-2#PBF
designator U?
Quad UV/OV Positive / Negative Voltage Monitor, 16-pin SOP (GN-16), -40 to 85 degC, Pb-Free; Manufacturer: Linear Technology; PartNumber: LTC2914IGN-2#PBF; Number of Supplies(#): 4; DatasheetVersion: Rev. B; PackageVersion: Rev. B, 03/2012; PackageReference: GN-16; PackageDescription: 16-Pin Plastic SSOP, Body 4.9 x 3.9 mm, Pitch 0.635 mm; Supplier 1: Digi-Key; Supplier Part Number 1: LTC2914IGN-2#PBF-ND; Supplier 2: Newark; Supplier Part Number 2: 56M6942; RoHS: TRUE; Mounting Technology: Surface Mount; ComponentLink1Description: Manufacturer URL; ComponentLink1URL: http://www.linear.com/; ComponentLink2Description: Datasheet; ComponentLink2URL: http://cds.linear.com/docs/en/datasheet/2914fb.pdf; ComponentLink3Description: Package Specification; ComponentLink3URL: http://cds.linear.com/docs/en/packaging/05081641_B_GN16.pdf
footprint LT-GN-16_N (SOP, 16-Leads, Body 5x4mm, Pitch 0.635mm, IPC Medium Density)
footprint LT-GN-16_L (SOP, 16-Leads, Body 5x4mm, Pitch 0.635mm, IPC High Density)
footprint LT-GN-16_M (SOP, 16-Leads, Body 5x4mm, Pitch 0.635mm, IPC Low Density)
pins: 1 VH1 (in) "Voltage High Inputs 1 and 2. When the voltage on this pin is below 0.5V, an undervoltage condition is triggered. Tie pin to VCC if unused.", 2 VL1 (in) "Voltage Low Inputs 1 and 2. When the voltage on this pin is above 0.5V, an overvoltage condition is triggered. Tie pin to GND if unused.", 3 VH2 (in) "Voltage High Inputs 1 and 2. When the voltage on this pin is below 0.5V, an undervoltage condition is triggered. Tie pin to VCC if unused.", 4 VL2 (in) "Voltage Low Inputs 1 and 2. When the voltage on this pin is above 0.5V, an overvoltage condition is triggered. Tie pin to GND if unused.", 5 VH3 (in) "Voltage High Inputs 3 and 4. The polarity of the input is selected by the state of the SEL pin (refer to Table 1). When the monitored input is confi gured as a positive voltage, an undervoltage condition is triggered when (See Datasheet)", 6 VL3 (in) "Voltage Low Inputs 3 and 4. The polarity of the input is selected by the state of the SEL pin (refer to Table 1). When the monitored input is confi gured as a positive voltage, an overvoltage condition is triggered when the (See Datasheet)", 7 VH4 (in) "Voltage High Inputs 3 and 4. The polarity of the input is selected by the state of the SEL pin (refer to Table 1). When the monitored input is confi gured as a positive voltage, an undervoltage condition is triggered when (See Datasheet)", 8 VL4 (in) "Voltage Low Inputs 3 and 4. The polarity of the input is selected by the state of the SEL pin (refer to Table 1). When the monitored input is confi gured as a positive voltage, an overvoltage condition is triggered when the (See Datasheet)", 9 GND (power) "Device Ground", 10 REF (out) "Buffered Reference Output. 1V reference used for the offset of negative-monitoring applications. The buffered reference sources and sinks up to 1mA. The reference drives capacitive loads up to 1nF. Larger capacitive loads (See Datasheet)", 11 ~{OV} (oc) "Overvoltage Logic Output. Asserts low when any positive polarity input voltage is above threshold or any negative polarity input voltage is below threshold. Latched low (LTC2914-1). Held low for an adjustable delay time (See Datasheet)", 12 ~{UV} (oc) "Undervoltage Logic Output. Asserts low when any positive polarity input voltage is below threshold or any negative polarity input voltage is above threshold. Held low for an adjustable delay time after all voltage inputs are (See Datasheet)", 13 DIS (in) "Output Disable Input. Disables the O\V\ and U\V\ output pins. When DIS is pulled high, the O\V\ and U\V\ pins are not asserted except during a UVLO condition. Pin has a weak (2uA) internal pull-down to GND. Leave pin open if (See Datasheet)", 14 SEL (in) "Input Polarity Select Three-State Input. Connect to VCC, GND or leave unconnected in open state to select one of three possible input polarity combinations (refer to Table 1).", 15 TMR (in) "Reset Delay Timer. Attach an external capacitor (CTMR) of at least 10pF to GND to set a reset delay time of 9ms/nF. A 1nF capacitor will generate an 8.5ms reset delay time. Tie pin to VCC to bypass timer.", 16 VCC (power) "Supply Voltage. Bypass this pin to GND with a 0.1uF (or greater) capacitor. Operates as a direct supply input for voltages up to 6V. Operates as a shunt regulator for supply voltages greater than 6V and must have a (See Datasheet)"